# Altium integrated library 6 Pin 6Pos THT BergeStick 2.54MM Amphenol 68604-406HLF.IntLib: 1 symbol
Pins are listed as number, name and electrical type; pins without a type are passive.

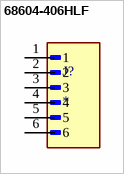
[diagram p0: symbol 68604-406HLF]

## 68604-406HLF
designator J?
BergStik, Board to Board connector, Unshrouded Vertical Header, Through Hole, Single Row, 6 Positions, 2.54 mm (0.100in) Pitch.; MF: AMPHENOL ICC / FCI; MP: 68604-406HLF; SnapEDA_Link: https://www.snapeda.com/parts/68604-406HLF/Amphenol/view-part/?ref=snap; Package: None; Value: *; Check_prices: https://www.snapeda.com/parts/68604-406HLF/Amphenol/view-part/?ref=eda
footprint AMPHENOL_68604-406HLF
pins: 1, 2, 3, 4, 5, 6